# EAGLE library part LM239 (library LMC6484)
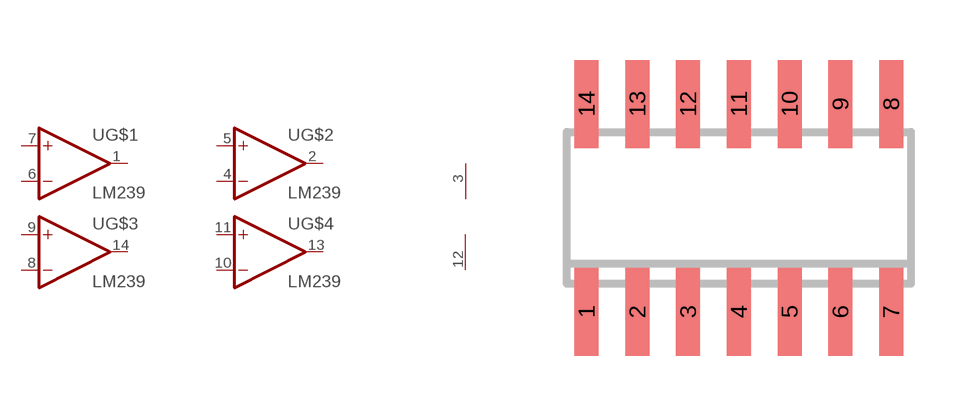
[diagram p1: symbol with the pads of SO14; footprint SO14]

Designator prefix -; gates G$1=OPAMP-1 G$2=OPAMP-1 G$3=OPAMP-1 G$4=OPAMP-1 G$5=PWR+-

## LM239  [SO14]
1  G$1:OUT  out
2  G$2:OUT  out
3  G$5:V+  pwr
4  G$2:-IN  in
5  G$2:+IN  in
6  G$1:-IN  in
7  G$1:+IN  in
8  G$3:-IN  in
9  G$3:+IN  in
10  G$4:-IN  in
11  G$4:+IN  in
12  G$5:V-  pwr
13  G$4:OUT  out
14  G$3:OUT  out

## Footprint SO14 (pad centres in mm)
Small Outline Package 14
smd 0.6 x 2.2: 1 -3.81,-2.6; 2 -2.54,-2.6; 3 -1.27,-2.6; 4 0,-2.6; 5 1.27,-2.6; 6 2.54,-2.6; 7 3.81,-2.6; 8 3.81,2.6; 9 2.54,2.6; 10 1.27,2.6; 11 0,2.6; 12 -1.27,2.6; 13 -2.54,2.6; 14 -3.81,2.6